# EAGLE library part CONNECTOR_9 (library TD-MySensors)
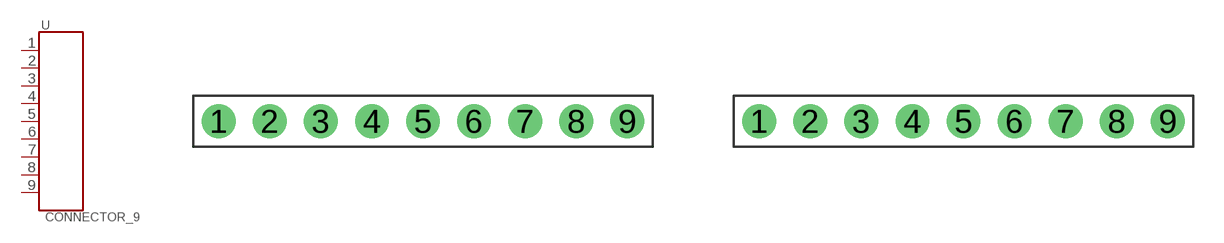
[diagram p14: symbol with the pads of DUPONT_9; footprints DUPONT_9, DUPONT_FEM90_9]

Designator prefix -

## CONNECTOR_9DUPONT  [DUPONT_9]
1  1
2  2
3  3
4  4
5  5
6  6
7  7
8  8
9  9

## CONNECTOR_9DUP_FEM90  [DUPONT_FEM90_9]
Pads as for DUPONT_9

## CONNECTOR_9DUP_MALE90  [DUPONT_MALE90_9]
Pads as for DUPONT_9

## CONNECTOR_9FEM9  [DUPONT_FEM_9]
Pads as for DUPONT_9

## Footprint DUPONT_9 (pad centres in mm)
drill 1.016 pad 1.676: 1 -10.16,0; 2 -7.62,0; 3 -5.08,0; 4 -2.54,0; 5 0,0; 6 2.54,0; 7 5.08,0; 8 7.62,0; 9 10.16,0

## Footprint DUPONT_FEM90_9 (pad centres in mm)
drill 1.016 pad 1.676: 1 -10.16,0; 2 -7.62,0; 3 -5.08,0; 4 -2.54,0; 5 0,0; 6 2.54,0; 7 5.08,0; 8 7.62,0; 9 10.16,0

## Footprint DUPONT_MALE90_9 (pad centres in mm)
drill 1.016 pad 1.676: 1 -10.16,0; 2 -7.62,0; 3 -5.08,0; 4 -2.54,0; 5 0,0; 6 2.54,0; 7 5.08,0; 8 7.62,0; 9 10.16,0

## Footprint DUPONT_FEM_9 (pad centres in mm)
drill 1.016 pad 1.676: 1 -10.16,0; 2 -7.62,0; 3 -5.08,0; 4 -2.54,0; 5 0,0; 6 2.54,0; 7 5.08,0; 8 7.62,0; 9 10.16,0